# Altium footprint library adafruit.PCBLIB: 643 footprints (part 15 of 41)
Each footprint in its own frame and in the unit in brackets; x right, y up, seen from the top. Pads: shape width x height; smd on the part's side, far side on the other; paste and mask are expansions set on the pad; w line width, h text height; cw(c..) or ccw(c..) is an arc to the next point about the centre after c.
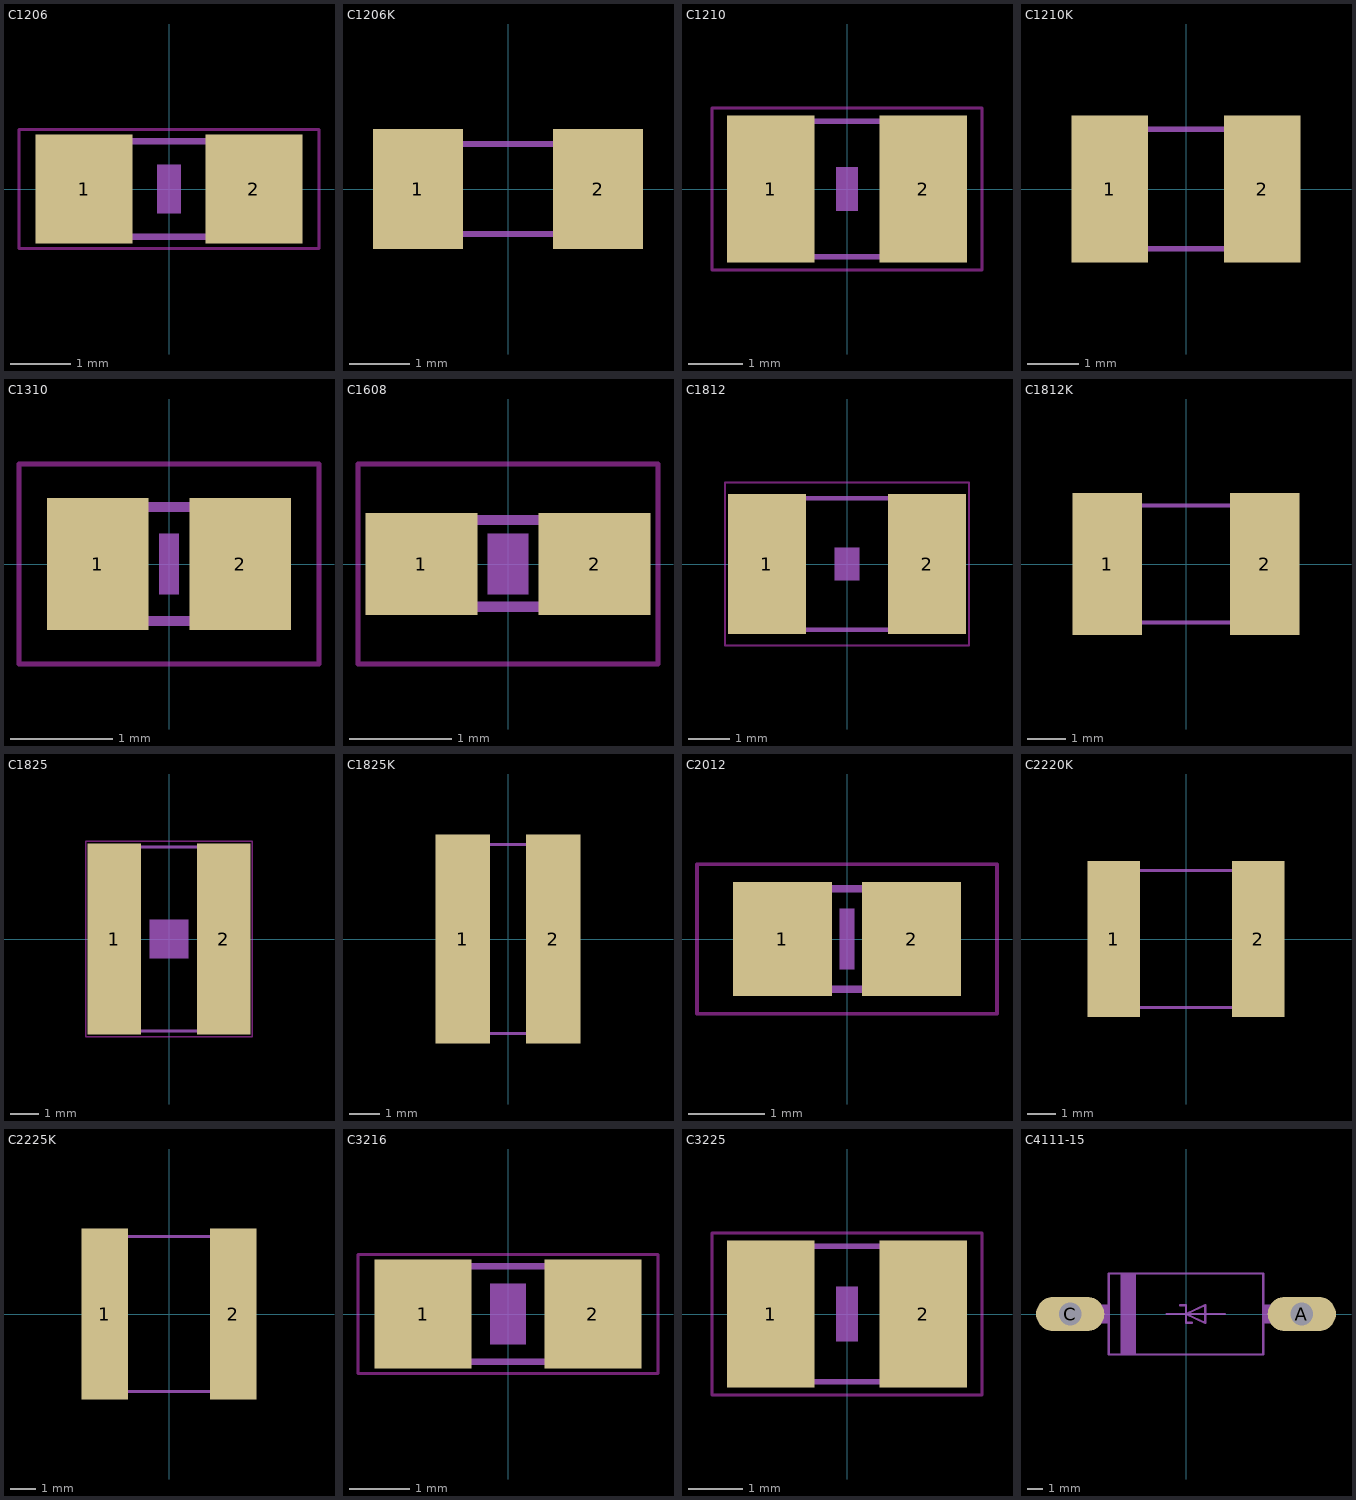
[diagram p14: the footprints below, top view; thin cyan lines are the x and y axes]

## C1206 [mil]
pads (2):
  rect 62.99x70.87 smd: 1(-55.12,0) 2(55.12,0)
Keep-Out Layer:
  lines w2: -97.36,-38.7 97.36,-38.7 97.36,38.7 -97.36,38.7 -97.36,-38.7
Mechanical 8:
  rectangle: -7.87,-15.75 7.87,15.75
Mechanical 18:
  rectangle: -67,-33.5 -37.47,33.43
  rectangle: 37.47,-33.43 67,33.5
  lines w4: -37.99,-30.98 37.99,-30.98 ; -37.99,30.98 37.99,30.98

## C1206K [mm]
pads (2):
  rect 1.5x2 smd: 1(-1.5,0) 2(1.5,0)
Mechanical 18:
  rectangle: -1.6,-0.8 -1.1,0.8
  rectangle: 1.1,-0.8 1.6,0.8
  lines w0.102: -1.525,-0.75 1.525,-0.75 ; -1.525,0.75 1.525,0.75

## C1210 [mil]
pads (2):
  rect 62.99x106.3 smd: 1(-55.12,0) 2(55.12,0)
Keep-Out Layer:
  lines w2: -97.36,-58.39 97.36,-58.39 97.36,58.39 -97.36,58.39 -97.36,-58.39
Mechanical 8:
  rectangle: -7.87,-15.75 7.87,15.75
Mechanical 18:
  rectangle: -67,-51 -37.47,51.36
  rectangle: 37.47,-51.36 67,51
  lines w4: -38,-49 38,-49 ; -38,49 38,49

## C1210K [mil]
pads (2):
  rect 59.06x114.17 smd: 1(-59.06,0) 2(59.06,0)
Mechanical 18:
  rectangle: -62.99,-49.21 -43.31,49.21
  rectangle: 43.31,-49.21 62.99,49.21
  lines w4: -60.04,-46.26 60.04,-46.26 ; -60.04,46.26 60.04,46.26

## C1310 [mm]
pads (2):
  rect 1x1.3 smd: 1(-0.7,0) 2(0.7,0)
Keep-Out Layer:
  lines w0.051: -1.473,-0.983 1.473,-0.983 1.473,0.983 -1.473,0.983 -1.473,-0.983
Mechanical 8:
  rectangle: -0.1,-0.3 0.1,0.3
Mechanical 18:
  rectangle: -0.66,-0.622 -0.28,0.628
  rectangle: 0.279,-0.622 0.659,0.628
  lines w0.102: -0.294,-0.559 0.294,-0.559 ; -0.294,0.559 0.294,0.559

## C1608 [mm]
pads (2):
  rect 1.1x1 smd: 1(-0.85,0) 2(0.85,0)
Keep-Out Layer:
  lines w0.051: -1.473,-0.983 1.473,-0.983 1.473,0.983 -1.473,0.983 -1.473,-0.983
Mechanical 8:
  rectangle: -0.2,-0.3 0.2,0.3
Mechanical 18:
  rectangle: -0.838,-0.47 -0.338,0.48
  rectangle: 0.33,-0.47 0.83,0.48
  lines w0.102: -0.356,-0.419 0.356,-0.419 ; -0.356,0.432 0.356,0.432

## C1812 [mil]
pads (2):
  rect 74.8x133.86 smd: 1(-76.77,0) 2(76.77,0)
Keep-Out Layer:
  lines w2: -117.05,-78.07 117.05,-78.07 117.05,78.07 -117.05,78.07 -117.05,-78.07
Mechanical 8:
  rectangle: -11.81,-15.75 11.81,15.75
Mechanical 18:
  rectangle: -94,-65 -56.6,64.92
  rectangle: 57,-65 94.4,64.92
  lines w4: -58,63 58,63 ; -57,-63 58,-63

## C1812K [mm]
pads (2):
  rect 1.8x3.7 smd: 1(-2.05,0) 2(2.05,0)
Mechanical 18:
  rectangle: -2.25,-1.6 -1.65,1.6
  rectangle: 1.65,-1.6 2.25,1.6
  lines w0.102: -2.175,-1.525 2.175,-1.525 ; -2.175,1.525 2.175,1.525

## C1825 [mil]
pads (2):
  rect 74.8x267.72 smd: 1(-76.77,0) 2(76.77,0)
Keep-Out Layer:
  lines w2: -117.05,-137.13 117.05,-137.13 117.05,137.13 -117.05,137.13 -117.05,-137.13
Mechanical 8:
  rectangle: -27.56,-27.56 27.56,27.56
Mechanical 18:
  rectangle: -95,-132 -57.6,131.78
  rectangle: 57,-132 94.4,131.78
  lines w4: -59,129 58,129 ; -58,-129 59,-129

## C1825K [mil]
pads (2):
  rect 70.87x271.65 smd: 1(-59.06,0) 2(59.06,0)
Mechanical 18:
  rectangle: -62.99,-125.98 -43.31,125.98
  rectangle: 43.31,-125.98 62.99,125.98
  lines w4: -60.04,-123.03 60.04,-123.03 ; -60.04,123.03 60.04,123.03

## C2012 [mil]
pads (2):
  rect 51.18x59.06 smd: 1(-33.46,0) 2(33.46,0)
Keep-Out Layer:
  lines w2: -77.68,-38.7 77.68,-38.7 77.68,38.7 -77.68,38.7 -77.68,-38.7
Mechanical 8:
  rectangle: -3.94,-15.75 3.94,15.75
Mechanical 18:
  rectangle: -43,-28.5 -13.47,28.59
  rectangle: 14,-28.5 43.53,28.59
  lines w4: -15,25.98 15,25.98 ; -14.02,-25.98 15,-25.98

## C2220K [mil]
pads (2):
  rect 72.83x216.54 smd: 1(-100.39,0) 2(100.39,0)
Mechanical 18:
  rectangle: -110.24,-98.43 -86.61,98.43
  rectangle: 86.61,-98.43 110.24,98.43
  lines w4: -107.28,-95.47 107.28,-95.47 ; -107.28,95.47 107.28,95.47

## C2225K [mil]
pads (2):
  rect 72.83x267.72 smd: 1(-100.39,0) 2(100.39,0)
Mechanical 18:
  rectangle: -110.24,-124.02 -86.61,124.02
  rectangle: 86.61,-124.02 110.24,124.02
  lines w4: -107.28,-121.06 107.28,-121.06 ; -107.28,121.06 107.28,121.06

## C3216 [mil]
pads (2):
  rect 62.99x70.87 smd: 1(-55.12,0) 2(55.12,0)
Keep-Out Layer:
  lines w2: -97.36,-38.7 97.36,-38.7 97.36,38.7 -97.36,38.7 -97.36,-38.7
Mechanical 8:
  rectangle: -11.81,-19.69 11.81,19.69
Mechanical 18:
  rectangle: -67,-33.5 -37.47,33.43
  rectangle: 37.47,-33.43 67,33.5
  lines w4: -37.99,-30.98 37.99,-30.98 ; -37.99,30.98 37.99,30.98

## C3225 [mil]
pads (2):
  rect 62.99x106.3 smd: 1(-55.12,0) 2(55.12,0)
Keep-Out Layer:
  lines w2: -97.36,-58.39 97.36,-58.39 97.36,58.39 -97.36,58.39 -97.36,-58.39
Mechanical 8:
  rectangle: -7.87,-19.69 7.87,19.69
Mechanical 18:
  rectangle: -67,-51 -37.47,51.36
  rectangle: 37.47,-51.36 67,51
  lines w4: -38,-49 38,-49 ; -38,49 38,49

## C4111-15 [mil]
pads (2):
  oval 177x88.5 hole 59: A(300,0) C(-300,0)
Mechanical 2:
  rectangle: -235,-25 -200,25
  rectangle: 200,-25 235,25
  rectangle: -170,-105 -130,105
  lines w6: -50,0 0,0 ; -15,23 0,23 0,0 ; 15,-23 0,-23 0,0 ; 100,0 0,0 ; 0,0 50,23 50,-23 0,0 ; -200,-105 -200,105 200,105 200,-105 -200,-105
Mechanical 18:
  lines w50: -300,0 -245,0 ; 245,0 300,0